# Altium schematic symbol library SCH - RF - FREQUENCY SYNTH - TI LMX2572 RHA.SCHLIB: 1 symbol
Pins are listed as number, name and electrical type; pins without a type are passive.

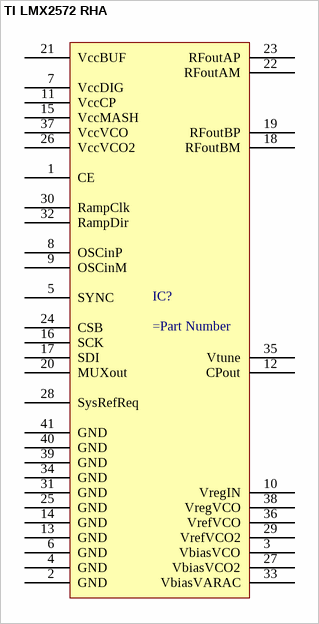
[diagram p0: symbol TI LMX2572 RHA]

## TI LMX2572 RHA
designator IC?
pins: 1 CE, 2 GND, 3 VbiasVCO, 4 GND, 5 SYNC, 6 GND, 7 VccDIG, 8 OSCinP, 9 OSCinM, 10 VregIN, 11 VccCP, 12 CPout, 13 GND, 14 GND, 15 VccMASH, 16 SCK, 17 SDI, 18 RFoutBM, 19 RFoutBP, 20 MUXout, 21 VccBUF, 22 RFoutAM, 23 RFoutAP, 24 CSB, 25 GND, 26 VccVCO2, 27 VbiasVCO2, 28 SysRefReq, 29 VrefVCO2, 30 RampClk, 31 GND, 32 RampDir, 33 VbiasVARAC, 34 GND, 35 Vtune, 36 VrefVCO, 37 VccVCO, 38 VregVCO, 39 GND, 40 GND, 41 GND